# EAGLE library part HDR-2X5-SMD1.27MM (library LITTLEBITS140915)
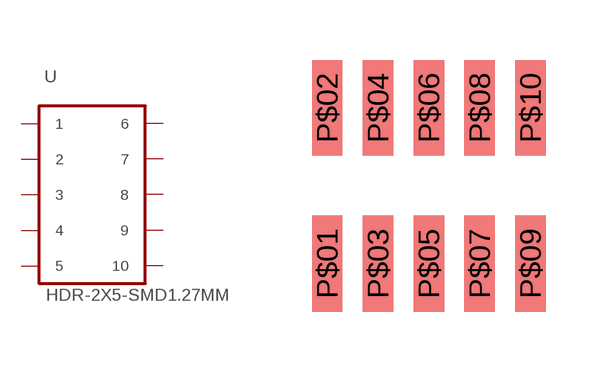
[diagram p80: symbol with the pads of HEADER-SMD-2X5-1.27MM; footprint HEADER-SMD-2X5-1.27MM]

Designator prefix -

## HDR-2X5-SMD1.27MM  [HEADER-SMD-2X5-1.27MM]
P$01  1  pas
P$02  2  pas
P$03  3  pas
P$04  4  pas
P$05  5  pas
P$06  6  pas
P$07  7  pas
P$08  8  pas
P$09  9  pas
P$10  10  pas

## Footprint HEADER-SMD-2X5-1.27MM (pad centres in mm)
smd 0.76 x 2.4: P$01 0,0; P$02 0,3.9; P$03 1.27,0; P$04 1.27,3.9; P$05 2.54,0; P$06 2.54,3.9; P$07 3.81,0; P$08 3.81,3.9; P$09 5.08,0; P$10 5.08,3.9